# EAGLE library part PJS008U-3000-0 (library PJS008U-3000-0)
Memory Card Connectors MicroSD Card Conn Ver Dip Mnt Manual Source: Datasheet
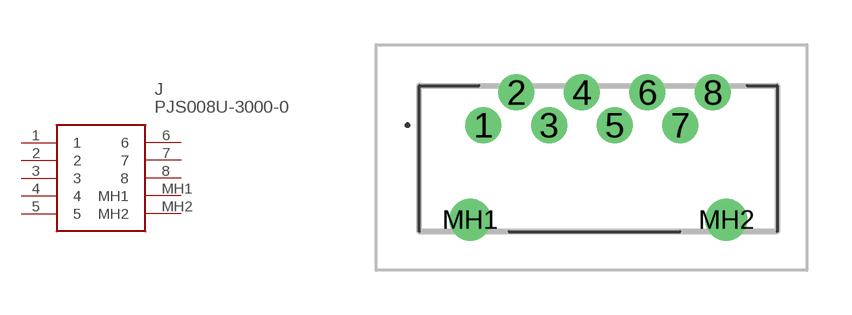
[diagram p0: symbol with the pads of PJS008U30000; footprint PJS008U30000]

Designator prefix J

## PJS008U-3000-0 (Description: Memory Card Connectors MicroSD Card Conn Ver Dip Mnt Manual; Height: 14.18mm; Manufacturer_Name: Yamaichi; Manufacturer_Part_Number: PJS008U-3000-0; Mouser_Part_Number: 945-PJS008U-3000-0; Mouser_Price-Stock: https://www.mouser.co.uk/ProductDetail/Yamaichi-Electronics/PJS008U-3000-0?qs=nO3wRANIIvnp3f0XwG2X3A%3D%3D)  [PJS008U30000]
1  1
2  2
3  3
4  4
5  5
6  6
7  7
8  8
MH1  MH1
MH2  MH2

## Footprint PJS008U30000 (pad centres in mm)
PJS008U-3000-0-2
drill 0.7 pad 1.2: 1 -3.625,1.12; 2 -2.525,2.22; 3 -1.425,1.12; 4 -0.325,2.22; 5 0.775,1.12; 6 1.875,2.22; 7 2.975,1.12; 8 4.075,2.22
drill 0.9 pad 1.4: MH1 -4.075,-2.05; MH2 4.525,-2.05